# EAGLE library part PIC24FXXKA304 (library pic24kakl)
PIC24FXXKA304
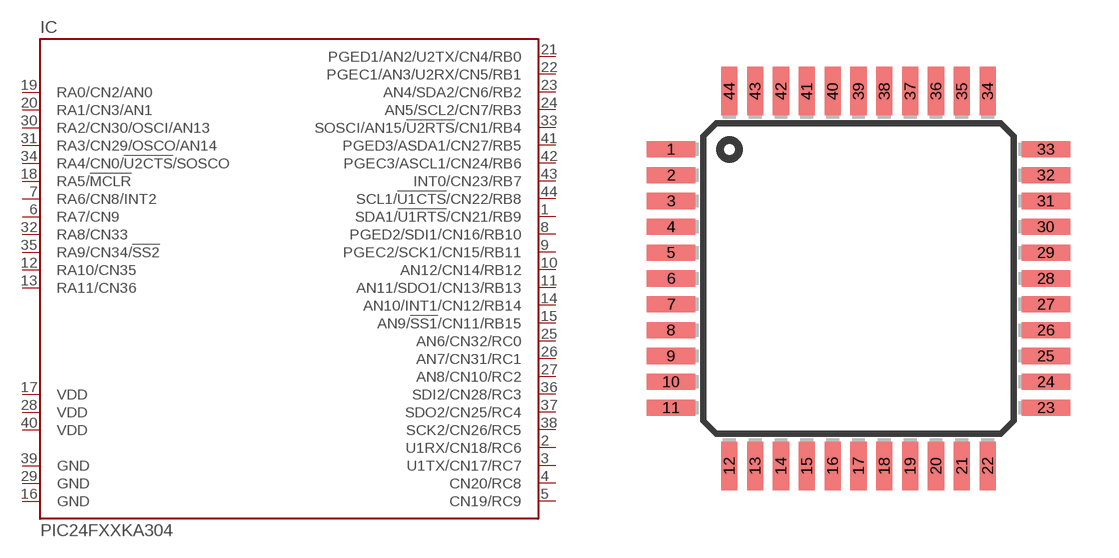
[diagram p13: symbol with the pads of TQFP44; footprint TQFP44]

Designator prefix IC

## PIC24FXXKA304-PT  [TQFP44]
1  SDA1/!U1RTS!/CN21/RB9
2  U1RX/CN18/RC6
3  U1TX/CN17/RC7
4  CN20/RC8
5  CN19/RC9
6  RA7/CN9
7  RA6/CN8/INT2
8  PGED2/SDI1/CN16/RB10
9  PGEC2/SCK1/CN15/RB11
10  AN12/CN14/RB12
11  AN11/SDO1/CN13/RB13
12  RA10/CN35
13  RA11/CN36
14  AN10/INT1/CN12/RB14
15  AN9/!SS1!/CN11/RB15
16  GND  pwr
17  VDD  pwr
18  RA5/!MCLR
19  RA0/CN2/AN0
20  RA1/CN3/AN1
21  PGED1/AN2/U2TX/CN4/RB0
22  PGEC1/AN3/U2RX/CN5/RB1
23  AN4/SDA2/CN6/RB2
24  AN5/SCL2/CN7/RB3
25  AN6/CN32/RC0
26  AN7/CN31/RC1
27  AN8/CN10/RC2
28  VDD  pwr
29  GND  pwr
30  RA2/CN30/OSCI/AN13
31  RA3/CN29/OSCO/AN14
32  RA8/CN33
33  SOSCI/AN15/!U2RTS!/CN1/RB4
34  RA4/CN0/!U2CTS!/SOSCO
35  RA9/CN34/!SS2!
36  SDI2/CN28/RC3
37  SDO2/CN25/RC4
38  SCK2/CN26/RC5
39  GND  pwr
40  VDD  pwr
41  PGED3/ASDA1/CN27/RB5
42  PGEC3/ASCL1/CN24/RB6
43  INT0/CN23/RB7
44  SCL1/!U1CTS!/CN22/RB8

## Footprint TQFP44 (pad centres in mm)
Thin Quad Flat Pack package type TQ
smd 1.5 x 0.5: 1 -5.8,4; 2 -5.8,3.2; 3 -5.8,2.4; 4 -5.8,1.6; 5 -5.8,0.8; 6 -5.8,0; 7 -5.8,-0.8; 8 -5.8,-1.6; 9 -5.8,-2.4; 10 -5.8,-3.2; 11 -5.8,-4; 23 5.8,-4; 24 5.8,-3.2; 25 5.8,-2.4; 26 5.8,-1.6; 27 5.8,-0.8; 28 5.8,0; 29 5.8,0.8; 30 5.8,1.6; 31 5.8,2.4; 32 5.8,3.2; 33 5.8,4
smd 0.5 x 1.5: 12 -4,-5.8; 13 -3.2,-5.8; 14 -2.4,-5.8; 15 -1.6,-5.8; 16 -0.8,-5.8; 17 0,-5.8; 18 0.8,-5.8; 19 1.6,-5.8; 20 2.4,-5.8; 21 3.2,-5.8; 22 4,-5.8; 34 4,5.8; 35 3.2,5.8; 36 2.4,5.8; 37 1.6,5.8; 38 0.8,5.8; 39 0,5.8; 40 -0.8,5.8; 41 -1.6,5.8; 42 -2.4,5.8; 43 -3.2,5.8; 44 -4,5.8